# Altium footprint library SamacSys.PcbLib: 39 footprints (part 2 of 3)
Each footprint in its own frame and in the unit in brackets; x right, y up, seen from the top. Pads: shape width x height; smd on the part's side, far side on the other; paste and mask are expansions set on the pad; w line width, h text height; cw(c..) or ccw(c..) is an arc to the next point about the centre after c.
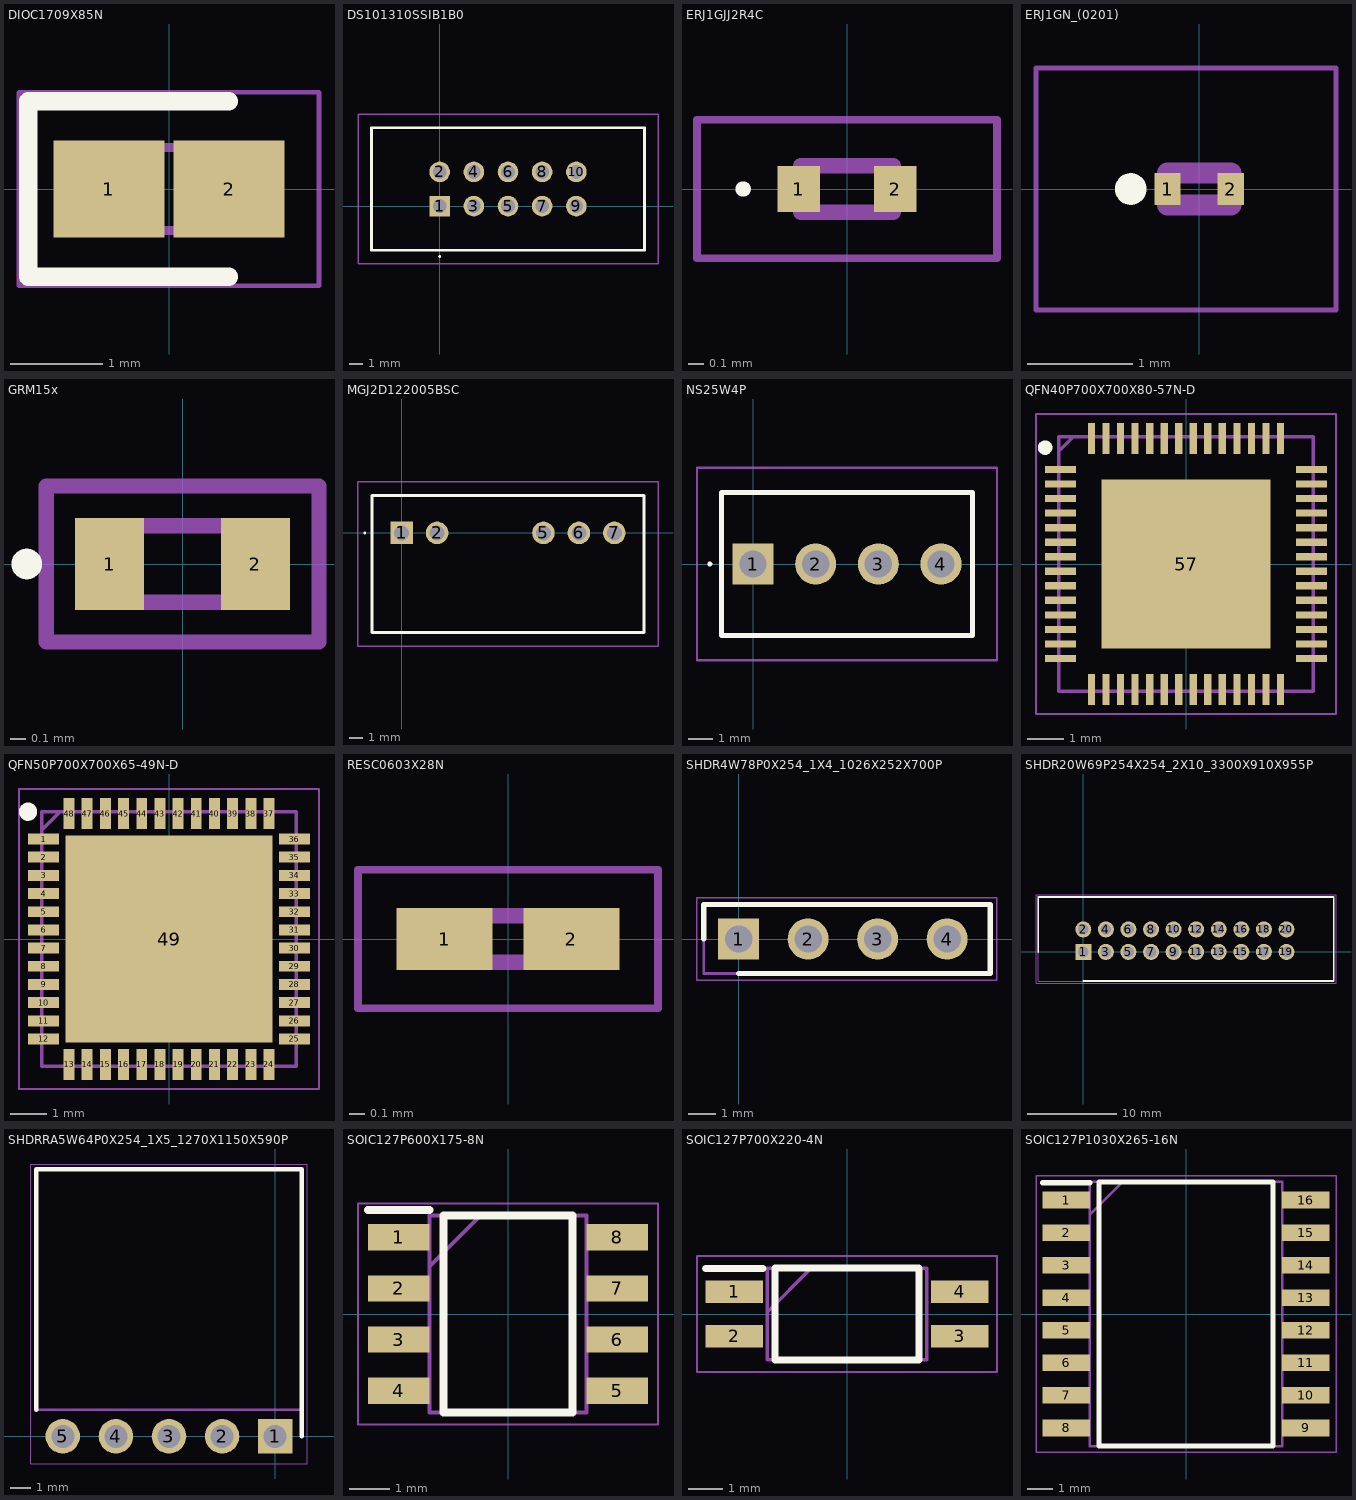
[diagram p1: the footprints below, top view; thin cyan lines are the x and y axes]

## DIOC1709X85N [mm]
pads (2):
  rect 1.2x1.05 smd: 1(-0.65,0) 2(0.65,0)
Top Overlay:
  lines w0.2: 0.65,-0.95 -1.525,-0.95 -1.525,0.95 0.65,0.95
Mechanical 13:
  lines w0.1: -0.85,-0.075 -0.325,0.45 ; -0.85,-0.45 -0.85,0.45 0.85,0.45 0.85,-0.45 -0.85,-0.45
Mechanical 15:
  lines w0.05: -1.625,-1.05 -1.625,1.05 1.625,1.05 1.625,-1.05 -1.625,-1.05
3D body "CDBU0245.stp": height 0.85, standoff 0, extent -0.85,-0.45 0.85,0.45

## DS101310SSIB1B0 [mm]
pads (10):
  rect 1.53x1.53 hole 1.02: 1(0,0)
  round 1.53 hole 1.02: 2(0,2.54) 3(2.54,0) 4(2.54,2.54) 5(5.08,0) 6(5.08,2.54) 7(7.62,0) 8(7.62,2.54) 9(10.16,0) 10(10.16,2.54)
Top Overlay:
  lines w0.1: 0,-3.8 ccw(c0,-3.75) 0,-3.7 ccw(c0,-3.75) 0,-3.8
  lines w0.2: -5.07,-3.28 -5.07,5.82 15.23,5.82 15.23,-3.28 -5.07,-3.28
Mechanical 13:
  lines w0.1: -5.07,-3.28 -5.07,5.82 15.23,5.82 15.23,-3.28 -5.07,-3.28
Mechanical 15:
  lines w0.1: -6.07,-4.28 -6.07,6.82 16.23,6.82 16.23,-4.28 -6.07,-4.28
3D body "DS1013-10SSIB1-B-0.stp": height 8.8, standoff -3.1, extent -10.15,-4.55 10.15,4.548

## ERJ1GJJ2R4C [mm]
pads (2):
  rect 0.275x0.3 smd: 1(-0.313,0) 2(0.313,0)
Top Overlay:
  lines w0.05: -0.675,-0.025 ccw(c-0.675,0) -0.675,0.025 ccw(c-0.675,0) -0.675,-0.025
Mechanical 13:
  lines w0.1: -0.3,-0.15 -0.3,0.15 0.3,0.15 0.3,-0.15 -0.3,-0.15
Mechanical 15:
  lines w0.05: -0.975,-0.45 -0.975,0.45 0.975,0.45 0.975,-0.45 -0.975,-0.45
3D body "ERJ-1GJF1502C.stp": height 0.23, standoff 0, extent -0.3,-0.15 0.3,0.15

## ERJ1GN_(0201) [mm]
pads (2):
  rect 0.25x0.3 smd: 1(-0.3,0) 2(0.3,0)
Top Overlay:
  circle w0.2: c-0.65,0 r0.05
Mechanical 13:
  lines w0.2: -0.3,-0.15 -0.3,0.15 0.3,0.15 0.3,-0.15 -0.3,-0.15
Mechanical 15:
  lines w0.05: -1.55,-1.15 -1.55,1.15 1.3,1.15 1.3,-1.15 -1.55,-1.15
3D body "ERJ-1GNF1001C.stp": height 0.23, standoff 0, extent -0.3,-0.15 0.3,0.15

## GRM15x [mm]
pads (2):
  rect 0.45x0.6 smd: 1(-0.475,0) 2(0.475,0)
Top Overlay:
  lines w0.1: -1.016,-0.05 ccw(c-1.016,0) -1.016,0.05 ccw(c-1.016,0) -1.016,-0.05
Mechanical 13:
  lines w0.1: -0.5,-0.25 -0.5,0.25 0.5,0.25 0.5,-0.25 -0.5,-0.25
Mechanical 15:
  lines w0.1: -0.889,-0.508 -0.889,0.508 0.889,0.508 0.889,-0.508 -0.889,-0.508
3D body "GRM155R61H105KE05J.stp": height 0.5, standoff 0, extent -0.5,-0.28 0.5,0.27

## MGJ2D122005BSC [mm]
pads (5):
  rect 1.612x1.612 hole 1.075: 1(0,0)
  round 1.612 hole 1.075: 2(2.54,0) 5(10.16,0) 6(12.7,0) 7(15.24,0)
Top Overlay:
  lines w0.1: -2.7,0 cw(c-2.65,0) -2.6,0 cw(c-2.65,0) -2.7,0
  lines w0.2: -2.13,-7.13 17.37,-7.13 17.37,2.67 -2.13,2.67 -2.13,-7.13
Mechanical 13:
  lines w0.1: -2.13,-7.13 17.37,-7.13 17.37,2.67 -2.13,2.67 -2.13,-7.13
Mechanical 15:
  lines w0.1: -3.13,-8.13 18.37,-8.13 18.37,3.67 -3.13,3.67 -3.13,-8.13
3D body "MGJ2D122005BSC.stp": height 12.85, standoff -5, extent -2.13,-7.13 17.37,2.67

## NS25W4P [mm]
pads (4):
  rect 1.665x1.665 hole 1.11: 1(0,0)
  round 1.665 hole 1.11: 2(2.54,0) 3(5.08,0) 4(7.62,0)
Top Overlay:
  lines w0.1: -1.8,0 ccw(c-1.75,0) -1.7,0 ccw(c-1.75,0) -1.8,0
  lines w0.2: -1.27,-2.9 -1.27,2.9 8.89,2.9 8.89,-2.9 -1.27,-2.9
Mechanical 13:
  lines w0.1: -1.27,-2.9 -1.27,2.9 8.89,2.9 8.89,-2.9 -1.27,-2.9
Mechanical 15:
  lines w0.1: -2.27,-3.9 -2.27,3.9 9.89,3.9 9.89,-3.9 -2.27,-3.9
3D body "NS25-W4P.stp": height 8.2, standoff -6.6, extent -2.9,-5.08 2.9,5.08

## QFN40P700X700X80-57N-D [mm]
pads (57):
  rect 0.85x0.2 smd: 1(-3.45,2.6) 2(-3.45,2.2) 3(-3.45,1.8) 4(-3.45,1.4) 5(-3.45,1) 6(-3.45,0.6) 7(-3.45,0.2) 8(-3.45,-0.2) 9(-3.45,-0.6) 10(-3.45,-1) 11(-3.45,-1.4) 12(-3.45,-1.8) 13(-3.45,-2.2) 14(-3.45,-2.6) 29(3.45,-2.6) 30(3.45,-2.2) 31(3.45,-1.8) 32(3.45,-1.4) 33(3.45,-1) 34(3.45,-0.6) 35(3.45,-0.2) 36(3.45,0.2) 37(3.45,0.6) 38(3.45,1) 39(3.45,1.4) 40(3.45,1.8) 41(3.45,2.2) 42(3.45,2.6)
  rect 0.2x0.85 smd: 15(-2.6,-3.45) 16(-2.2,-3.45) 17(-1.8,-3.45) 18(-1.4,-3.45) 19(-1,-3.45) 20(-0.6,-3.45) 21(-0.2,-3.45) 22(0.2,-3.45) 23(0.6,-3.45) 24(1,-3.45) 25(1.4,-3.45) 26(1.8,-3.45) 27(2.2,-3.45) 28(2.6,-3.45) 43(2.6,3.45) 44(2.2,3.45) 45(1.8,3.45) 46(1.4,3.45) 47(1,3.45) 48(0.6,3.45) 49(0.2,3.45) 50(-0.2,3.45) 51(-0.6,3.45) 52(-1,3.45) 53(-1.4,3.45) 54(-1.8,3.45) 55(-2.2,3.45) 56(-2.6,3.45)
  rect 4.65x4.65 smd: 57(0,0)
Top Overlay:
  circle w0.2: c-3.875,3.2 r0.1
Mechanical 13:
  lines w0.1: -3.5,3.1 -3.1,3.5 ; -3.5,-3.5 -3.5,3.5 3.5,3.5 3.5,-3.5 -3.5,-3.5
Mechanical 15:
  lines w0.05: -4.125,-4.125 -4.125,4.125 4.125,4.125 4.125,-4.125 -4.125,-4.125
3D body "PI4IOE5V96248ZLEX.stp": height 0.8, standoff 0, extent -3.55,-3.55 3.55,3.55

## QFN50P700X700X65-49N-D [mm]
pads (49):
  rect 0.85x0.3 smd: 1(-3.45,2.75) 2(-3.45,2.25) 3(-3.45,1.75) 4(-3.45,1.25) 5(-3.45,0.75) 6(-3.45,0.25) 7(-3.45,-0.25) 8(-3.45,-0.75) 9(-3.45,-1.25) 10(-3.45,-1.75) 11(-3.45,-2.25) 12(-3.45,-2.75) 25(3.45,-2.75) 26(3.45,-2.25) 27(3.45,-1.75) 28(3.45,-1.25) 29(3.45,-0.75) 30(3.45,-0.25) 31(3.45,0.25) 32(3.45,0.75) 33(3.45,1.25) 34(3.45,1.75) 35(3.45,2.25) 36(3.45,2.75)
  rect 0.3x0.85 smd: 13(-2.75,-3.45) 14(-2.25,-3.45) 15(-1.75,-3.45) 16(-1.25,-3.45) 17(-0.75,-3.45) 18(-0.25,-3.45) 19(0.25,-3.45) 20(0.75,-3.45) 21(1.25,-3.45) 22(1.75,-3.45) 23(2.25,-3.45) 24(2.75,-3.45) 37(2.75,3.45) 38(2.25,3.45) 39(1.75,3.45) 40(1.25,3.45) 41(0.75,3.45) 42(0.25,3.45) 43(-0.25,3.45) 44(-0.75,3.45) 45(-1.25,3.45) 46(-1.75,3.45) 47(-2.25,3.45) 48(-2.75,3.45)
  rect 5.7x5.7 smd: 49(0,0)
Top Overlay:
  circle w0.25: c-3.875,3.5 r0.125
Mechanical 13:
  lines w0.1: -3.5,3 -3,3.5 ; -3.5,-3.5 -3.5,3.5 3.5,3.5 3.5,-3.5 -3.5,-3.5
Mechanical 15:
  lines w0.05: -4.125,-4.125 -4.125,4.125 4.125,4.125 4.125,-4.125 -4.125,-4.125
3D body "STM32G431CBU6.stp": height 0.57, standoff 0, extent -3.5,-3.5 3.5,3.5

## RESC0603X28N [mm]
pads (2):
  rect 0.625x0.4 smd: 1(-0.412,0) 2(0.412,0)
Mechanical 13:
  lines w0.1: -0.3,-0.15 -0.3,0.15 0.3,0.15 0.3,-0.15 -0.3,-0.15
Mechanical 15:
  lines w0.05: -0.975,-0.45 -0.975,0.45 0.975,0.45 0.975,-0.45 -0.975,-0.45
3D body "CRCW020112K1FKED.stp": height 0.28, standoff 0, extent -0.3,-0.15 0.3,0.15

## SHDR4W78P0X254_1X4_1026X252X700P [mm]
pads (4):
  rect 1.5x1.5 hole 1: 1(0,0)
  round 1.5 hole 1: 2(2.54,0) 3(5.08,0) 4(7.62,0)
Top Overlay:
  lines w0.2: -1.27,0 -1.27,1.26 9.19,1.26 9.19,-1.26 0,-1.26
Mechanical 13:
  lines w0.1: -1.27,-1.26 9.19,-1.26 9.19,1.26 -1.27,1.26 -1.27,-1.26
Mechanical 15:
  lines w0.05: -1.52,-1.51 9.44,-1.51 9.44,1.51 -1.52,1.51 -1.52,-1.51
3D body "215297-4.stp": height 6.9, standoff -3.1, extent -1.21,-1.26 8.95,1.26

## SHDR20W69P254X254_2X10_3300X910X955P [mm]
pads (20):
  rect 1.8x1.8 hole 1.2: 1(0,0)
  round 1.8 hole 1.2: 2(0,2.54) 3(2.54,0) 4(2.54,2.54) 5(5.08,0) 6(5.08,2.54) 7(7.62,0) 8(7.62,2.54) 9(10.16,0) 10(10.16,2.54) 11(12.7,0) 12(12.7,2.54) 13(15.24,0) 14(15.24,2.54) 15(17.78,0) 16(17.78,2.54) 17(20.32,0) 18(20.32,2.54) 19(22.86,0) 20(22.86,2.54)
Top Overlay:
  lines w0.2: -5.07,0 -5.07,6.2 28.18,6.2 28.18,-3.28 0,-3.28
Mechanical 13:
  lines w0.1: -5.07,-3.28 28.18,-3.28 28.18,6.2 -5.07,6.2 -5.07,-3.28
Mechanical 15:
  lines w0.05: -5.32,-3.53 28.43,-3.53 28.43,6.45 -5.32,6.45 -5.32,-3.53
3D body "DS1013-20SSIB1-B-0.stp": height 9.55, standoff -3.35, extent -5.07,-3.28 27.93,5.82

## SHDRRA5W64P0X254_1X5_1270X1150X590P [mm]
pads (5):
  rect 1.65x1.65 hole 1.1: 1(0,0)
  round 1.65 hole 1.1: 2(-2.54,0) 3(-5.08,0) 4(-7.62,0) 5(-10.16,0)
Top Overlay:
  lines w0.2: -11.43,1.27 -11.43,12.77 1.27,12.77 1.27,0
Mechanical 13:
  lines w0.1: -11.43,1.27 -11.43,12.77 1.27,12.77 1.27,1.27 -11.43,1.27
Mechanical 15:
  lines w0.05: -11.68,-1.325 -11.68,13.02 1.52,13.02 1.52,-1.325 -11.68,-1.325
3D body "NS25-W5K.stp": height 5.9, standoff -3.3, extent -11.43,-0.32 1.27,12.77

## SOIC127P600X175-8N [mm]
pads (8):
  rect 1.525x0.65 smd: 1(-2.712,1.905) 2(-2.712,0.635) 3(-2.712,-0.635) 4(-2.712,-1.905) 5(2.712,-1.905) 6(2.712,-0.635) 7(2.712,0.635) 8(2.712,1.905)
Top Overlay:
  lines w0.2: -3.475,2.58 -1.95,2.58 ; -1.6,-2.45 1.6,-2.45 1.6,2.45 -1.6,2.45 -1.6,-2.45
Mechanical 13:
  lines w0.1: -1.95,1.18 -0.68,2.45 ; -1.95,-2.45 1.95,-2.45 1.95,2.45 -1.95,2.45 -1.95,-2.45
Mechanical 15:
  lines w0.05: -3.725,-2.75 3.725,-2.75 3.725,2.75 -3.725,2.75 -3.725,-2.75
3D body "NE555DR.stp": height 1.75, standoff 0, extent -3,-2.45 3,2.45

## SOIC127P700X220-4N [mm]
pads (4):
  rect 1.65x0.65 smd: 1(-3.25,0.635) 2(-3.25,-0.635) 3(3.25,-0.635) 4(3.25,0.635)
Top Overlay:
  lines w0.2: -4.075,1.31 -2.425,1.31 ; -2.075,-1.325 2.075,-1.325 2.075,1.325 -2.075,1.325 -2.075,-1.325
Mechanical 13:
  lines w0.1: -2.3,0.055 -1.03,1.325 ; -2.3,-1.325 2.3,-1.325 2.3,1.325 -2.3,1.325 -2.3,-1.325
Mechanical 15:
  lines w0.05: -4.325,-1.675 4.325,-1.675 4.325,1.675 -4.325,1.675 -4.325,-1.675
3D body "TLP291_Y,SE_T.stp": height 2.2, standoff 0, extent -3.5,-1.325 3.5,1.325

## SOIC127P1030X265-16N [mm]
pads (16):
  rect 1.85x0.65 smd: 1(-4.675,4.445) 2(-4.675,3.175) 3(-4.675,1.905) 4(-4.675,0.635) 5(-4.675,-0.635) 6(-4.675,-1.905) 7(-4.675,-3.175) 8(-4.675,-4.445) 9(4.675,-4.445) 10(4.675,-3.175) 11(4.675,-1.905) 12(4.675,-0.635) 13(4.675,0.635) 14(4.675,1.905) 15(4.675,3.175) 16(4.675,4.445)
Top Overlay:
  lines w0.2: -5.6,5.12 -3.75,5.12 ; -3.4,-5.15 -3.4,5.15 3.4,5.15 3.4,-5.15 -3.4,-5.15
Mechanical 13:
  lines w0.1: -3.75,3.88 -2.48,5.15 ; -3.75,-5.15 -3.75,5.15 3.75,5.15 3.75,-5.15 -3.75,-5.15
Mechanical 15:
  lines w0.05: -5.85,-5.4 -5.85,5.4 5.85,5.4 5.85,-5.4 -5.85,-5.4
3D body "4DIR2400HXUMA1.stp": height 2.65, standoff 0, extent -5.15,-5.15 5.15,5.15